# EAGLE library part GL827L (library BaseApp)
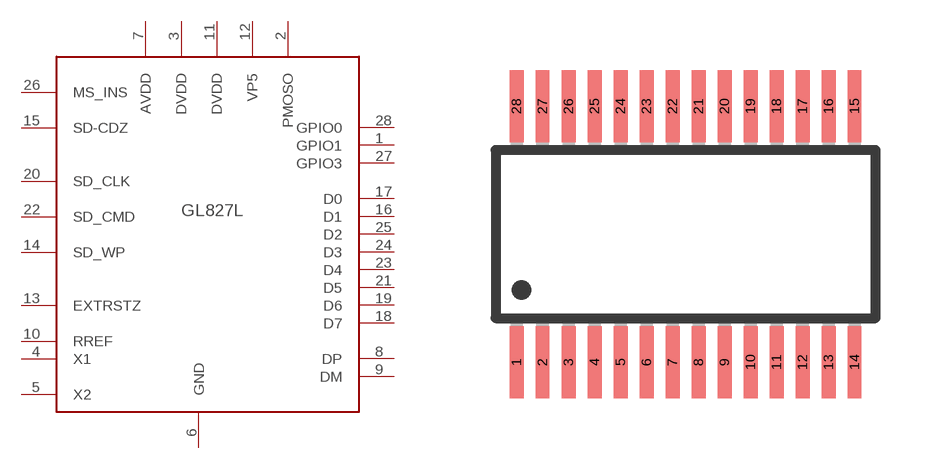
[diagram p42: symbol with the pads of 28SSOP; footprint 28SSOP]

Designator prefix GL827L

## GL827L  [28SSOP]
1  GPIO1
2  PMOSO
3  DVDD
4  X1
5  X2
6  GND
7  AVDD
8  DP
9  DM
10  RREF
11  DVDD
12  VP5
13  EXTRSTZ
14  SD_WP
15  SD-CDZ
16  D1
17  D0
18  D7
19  D6
20  SD_CLK
21  D5
22  SD_CMD
23  D4
24  D3
25  D2
26  MS_INS
27  GPIO3
28  GPIO0

## Footprint 28SSOP (pad centres in mm)
smd 0.35 x 1.8: 1 -4.225,-3.2; 2 -3.575,-3.2; 3 -2.925,-3.2; 4 -2.275,-3.2; 5 -1.625,-3.2; 6 -0.975,-3.2; 7 -0.325,-3.2; 8 0.325,-3.2; 9 0.975,-3.2; 10 1.625,-3.2; 11 2.275,-3.2; 12 2.925,-3.2; 13 3.575,-3.2; 14 4.225,-3.2; 15 4.225,3.2; 16 3.575,3.2; 17 2.925,3.2; 18 2.275,3.2; 19 1.625,3.2; 20 0.975,3.2; 21 0.325,3.2; 22 -0.325,3.2; 23 -0.975,3.2; 24 -1.625,3.2; 25 -2.275,3.2; 26 -2.925,3.2; 27 -3.575,3.2; 28 -4.225,3.2